# Altium schematic symbol library BISRC.Schlib: 1 symbol
Pins are listed as number, name and electrical type; pins without a type are passive.

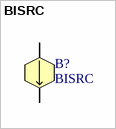
[diagram p0: symbol BISRC]

## BISRC
designator B?
Non-Linear Dependent Current Source
pins: 1, 2